# EAGLE library part AVR_SPI_PROG_2X3 (library angrypig7-Connectors-Programming)
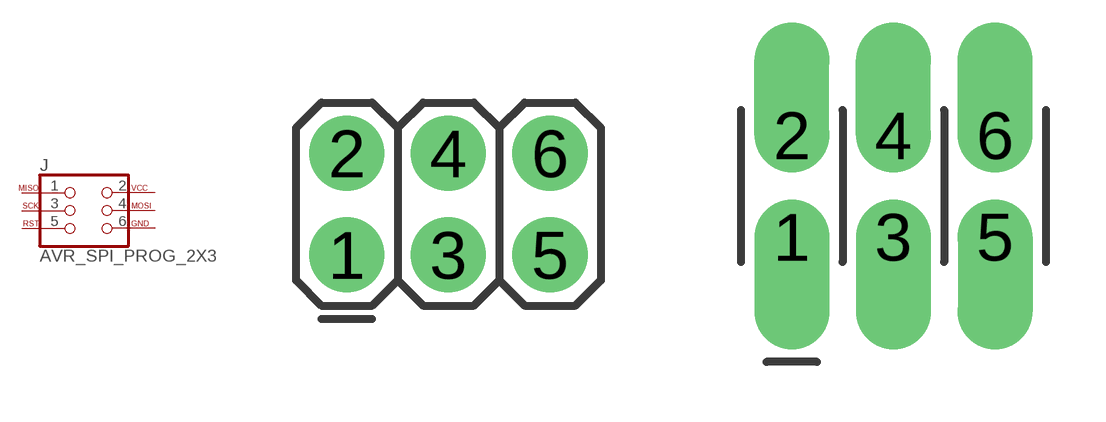
[diagram p4: symbol with the pads of 2X3-2.54MM; footprints 2X3-2.54MM, 2X3-2.54MM-LONGPAD]

Designator prefix J

## AVR_SPI_PROG_2X3_PTH  [2X3-2.54MM]
1  1  pas
2  2  pas
3  3  pas
4  4  pas
5  5  pas
6  6  pas

## AVR_SPI_PROG_2X3_OFFSET_PADS  [2X3-2.54MM-LONGPAD]
Pads as for 2X3-2.54MM

## AVR_SPI_PROG_2X3_SMD  [2X3-2.54MM_SMD]
Pads as for 2X3-2.54MM

## AVR_SPI_PROG_2X3_SHROUDED  [2X3-2.54MM-SHROUDED]
Pads as for 2X3-2.54MM

## Footprint 2X3-2.54MM (pad centres in mm)
drill 1.016 pad 1.88: 1 0,0; 2 0,2.54; 3 2.54,0; 4 2.54,2.54; 5 5.08,0; 6 5.08,2.54

## Footprint 2X3-2.54MM-LONGPAD (pad centres in mm)
drill 1.118 pad 1.88 offset: 1 -2.54,-1.27; 2 -2.54,1.27; 3 0,-1.27; 4 0,1.27; 5 2.54,-1.27; 6 2.54,1.27

## Footprint 2X3-2.54MM_SMD (pad centres in mm)
smd 1 x 3.17: 1 -2.54,-2.54; 2 -2.54,2.54; 3 0,-2.54; 4 0,2.54; 5 2.54,-2.54; 6 2.54,2.54
hole 1.8 at -1.27,0
hole 1.8 at 1.27,0

## Footprint 2X3-2.54MM-SHROUDED (pad centres in mm)
drill 1.016 pad 1.88 square: 1 -1.27,2.54
drill 1.016 pad 1.88: 2 1.27,2.54; 3 -1.27,0; 4 1.27,0; 5 -1.27,-2.54; 6 1.27,-2.54